# EAGLE library part ADAFRUIT_BNO055 (library BNO055_breakout)
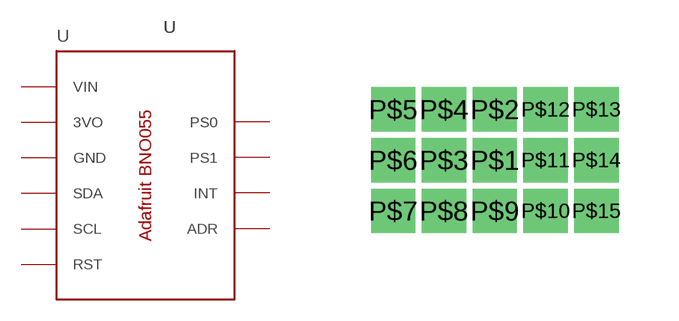
[diagram p0: symbol with the pads of DUMMY; footprint DUMMY]

Designator prefix U

## ADAFRUIT_BNO055  [DUMMY]
P$1  3VO
P$2  ADR
P$3  GND
P$4  INT
P$5  PS0
P$6  PS1
P$7  RST
P$8  SCL
P$9  SDA
P$10  VIN

## Footprint DUMMY (pad centres in mm)
drill 0.6 square: P$1 0,0; P$2 0,1.27; P$3 -1.27,0; P$4 -1.27,1.27; P$5 -2.54,1.27; P$6 -2.54,0; P$7 -2.54,-1.27; P$8 -1.27,-1.27; P$9 0,-1.27; P$10 1.27,-1.27; P$11 1.27,0; P$12 1.27,1.27; P$13 2.54,1.27; P$14 2.54,0; P$15 2.54,-1.27